# Altium schematic symbol library Batt_Keystone_3034TR_eec.SchLib: 1 symbol
Pins are listed as number, name and electrical type; pins without a type are passive.

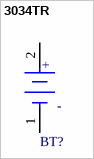
[diagram p0: symbol 3034TR]

## 3034TR
designator BT?  (value not drawn)
pins: 1 C, 2 A
text: +; -